# Altium schematic symbol library diodes_transil.SchLib: 25 symbols
Pins are listed as number, name and electrical type; pins without a type are passive.

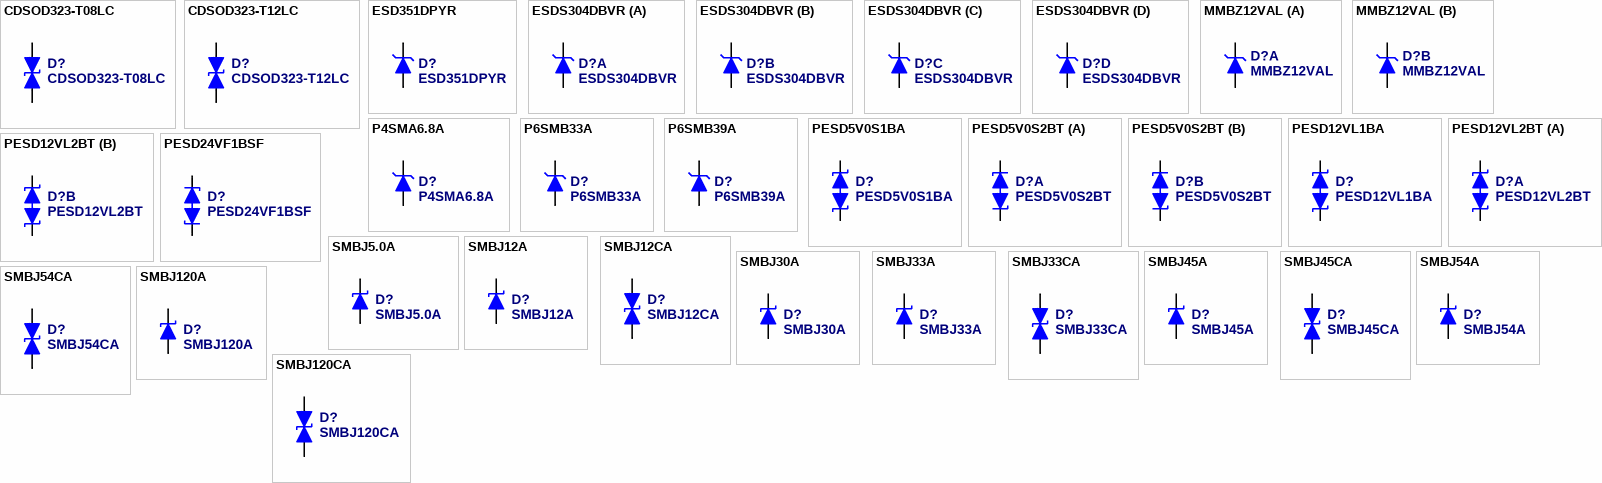
[diagram p0: symbols CDSOD323-T08LC to SMBJ120CA]

## CDSOD323-T08LC
designator D?
Bidirectional, 8V, 250W Surface Mount Transient Voltage Suppression Diode, CDSOD323 Series; Supplier 1: Farnell; Supplier Part Number 1: 2341923
footprint SOD323 (JAITA Marking: SC76 / SC-76)
pins: 1 A, 2 K
2 alternate drawings of the same symbol

## CDSOD323-T12LC
designator D?
Bidirectional, 12V, 250W Surface Mount Transient Voltage Suppression Diode, CDSOD323 Series; Supplier 1: Farnell; Supplier 2: Farnell; Supplier 3: Farnell; Supplier Part Number 1: 1824864RL; Supplier Part Number 2: 1824864; Supplier Part Number 3: 2082896
footprint SOD323 (JAITA Marking: SC76 / SC-76)
pins: 1 A, 2 K
2 alternate drawings of the same symbol

## ESD351DPYR
designator D?
1-Channel30 kV ESD ProtectionDiodewith Low ClampingVoltagein0402 Package
footprint D0402
pins: 1 A, 2 K

## ESDS304DBVR
designator D?
Data-Line Surge and ESD Protection Devices for HS Interfaces
footprint SOT-23-5 (, AKA: SOT753 (NXP), TSOP5 (NXP))
part A pins: 1, 2
part B pins: 2, 3
part C pins: 2, 4
part D pins: 2, 5

## MMBZ12VAL
designator D?
Low capacitance unidirectional double ESD protection diode; Supplier 1: Farnell; Supplier 2: Farnell; Supplier 3: Farnell; Supplier Part Number 1: 1829190RL; Supplier Part Number 2: 1829190; Supplier Part Number 3: 2441390
footprint SOT-23
part A pins: 1 K, 3 A
part B pins: 2 K, 3 A
2 alternate drawings of the same symbol

## P4SMA6.8A
designator D?
Surface Mount 400W ESD Diode
footprint DO-214AC (SMA)
pins: 1, 2

## P6SMB33A
designator D?
P6SMB Series TVS Diode (Vbd: 33V, Vstdoff: 28,4V); Product Nr: 1578884; Supplier: Farnell; Supplier 1: Farnell; Supplier 2: Farnell; Supplier 3: Farnell; Supplier 4: TME; Supplier 5: TME; Supplier 6: TME; Supplier Part Number 1: 1578879RL; Supplier Part Number 2: 1578879; Supplier Part Number 3: 2317507; Supplier Part Number 4: P6SMB33A; Supplier Part Number 5: P6SMB33A-LF; Supplier Part Number 6: P6SMB33AT3G
footprint SMB
pins: 1 A, 2 K
2 alternate drawings of the same symbol

## P6SMB39A
designator D?
P6SMB Series TVS Diode (Vbd: 39V, Vstdoff: 33.3V); Product Nr: 1578884; Supplier: Farnell; Supplier 1: Farnell; Supplier 2: Farnell; Supplier 3: TME; Supplier 4: TME; Supplier Part Number 1: 1459165; Supplier Part Number 2: 1459165RL; Supplier Part Number 3: P6SMB39A; Supplier Part Number 4: P6SMB39A-LF
footprint SMB
pins: 1 A, 2 K
2 alternate drawings of the same symbol

## PESD5V0S1BA
designator D?
Low capacitance bidirectional ESD protection diode in SOD323; Supplier 1: Farnell; Supplier 2: Farnell; Supplier 3: Farnell; Supplier 4: Farnell; Supplier Part Number 1: 8737363RL; Supplier Part Number 2: 8737363; Supplier Part Number 3: 1562425; Supplier Part Number 4: 2371090
footprint SOD323 (JAITA Marking: SC76 / SC-76)
pins: 1, 2
1 alternate drawing of the same symbol

## PESD5V0S2BT
designator D?
Low capacitance double bidirectional ESD protection diodes in SOT23; Supplier 1: Farnell; Supplier 2: Farnell; Supplier 3: TME; Supplier Part Number 1: 8737720RL; Supplier Part Number 2: 8737720; Supplier Part Number 3: PESD5V0S2BT
footprint SOT-23
part A pins: 2, 3
part B pins: 1, 3
1 alternate drawing of the same symbol

## PESD12VL1BA
designator D?
Low capacitance bidirectional ESD protection diode in SOD323; Supplier 1: Farnell; Supplier 2: Farnell; Supplier 3: Farnell; Supplier 4: Farnell; Supplier Part Number 1: 8737363RL; Supplier Part Number 2: 8737363; Supplier Part Number 3: 1562425; Supplier Part Number 4: 2371090
footprint SOD323 (JAITA Marking: SC76 / SC-76)
pins: 1, 2
1 alternate drawing of the same symbol

## PESD12VL2BT
designator D?
Low capacitance double bidirectional ESD protection diodes in SOT23; Supplier 1: Farnell; Supplier 2: Farnell; Supplier Part Number 1: 1510695; Supplier Part Number 2: 1510695RL
footprint SOT-23
part A pins: 2, 3
part B pins: 1, 3
1 alternate drawing of the same symbol

## PESD24VF1BSF
designator D?
Ultra low capacitance bidirectional ESD protection diode; Supplier 1: Newark; Supplier Part Number 1: 02AC3822
footprint SOD962
pins: 1, 2
1 alternate drawing of the same symbol

## SMBJ5.0A
designator D?
5.0V, 600W Surface Mount Transient Voltage Suppression Diode, SMBJ Series; Supplier 1: Farnell; Supplier 2: Farnell; Supplier 3: Farnell; Supplier 4: Farnell; Supplier 5: Farnell; Supplier 6: Farnell; Supplier 7: Farnell; Supplier 8: Farnell; Supplier 9: Farnell; Supplier 10: Farnell; Supplier 11: TME; Supplier 12: TME; Supplier 13: TME; Supplier Part Number 1: 9381554; Supplier Part Number 2: 1797897; Supplier Part Number 3: 9886311; Supplier Part Number 4: 2097845; Supplier Part Number 5: 1456972; Supplier Part Number 6: 7277792; Supplier Part Number 7: 9551107; Supplier Part Number 8: 2429079; Supplier Part Number 9: 2353654; Supplier Part Number 10: 2252493; Supplier Part Number 11: SMBJ5.0A-E3/52; Supplier Part Number 12: SMBJ5.0A-LF; Supplier Part Number 13: SMBJ5.0A-TR
footprint SMB
pins: 1 A, 2 K
2 alternate drawings of the same symbol

## SMBJ12A
designator D?
12V, 600W Surface Mount Transient Voltage Suppression Diode, SMBJ Series; Supplier 1: Farnell; Supplier 2: Farnell; Supplier 3: Farnell; Supplier 4: Farnell; Supplier 5: Farnell; Supplier 6: Farnell; Supplier 7: Farnell; Supplier 8: Farnell; Supplier 9: Farnell; Supplier 10: Farnell; Supplier 11: Farnell; Supplier 12: Farnell; Supplier 13: Farnell; Supplier 14: Farnell; Supplier 15: Farnell; Supplier 16: Farnell; Supplier 17: Farnell; Supplier 18: Farnell; Supplier 19: TME; Supplier 20: TME; Supplier 21: TME; Supplier Part Number 1: 1017826; Supplier Part Number 2: 2252468; Supplier Part Number 3: 2429080; Supplier Part Number 4: 9886060; Supplier Part Number 5: 2370782; Supplier Part Number 6: 1017826RL; Supplier Part Number 7: 9886060RL; Supplier Part Number 8: 1827609; Supplier Part Number 9: 1677611; Supplier Part Number 10: 9550968RL; Supplier Part Number 11: 9550968; Supplier Part Number 12: 2371362; Supplier Part Number 13: 1837056; Supplier Part Number 14: 1812508; Supplier Part Number 15: 1899462; Supplier Part Number 16: 2429080RL; Supplier Part Number 17: 7277717; Supplier Part Number 18: 7277717RL; Supplier Part Number 19: SMBJ12A-E3/52; Supplier Part Number 20: SMBJ12A-LF; Supplier Part Number 21: P6SMBJ12A-DIO
footprint SMB
pins: 1 A, 2 K
2 alternate drawings of the same symbol

## SMBJ12CA
designator D?
Bidirectional, 12V, 600W Surface Mount Transient Voltage Suppression Diode, SMBJ Series; Supplier 1: Farnell; Supplier 2: Farnell; Supplier 3: Farnell; Supplier 4: Farnell; Supplier 5: TME; Supplier 6: TME; Supplier 7: Farnell; Supplier 8: TME; Supplier Part Number 1: 9886079RL; Supplier Part Number 2: 1698866RL; Supplier Part Number 3: 2252469; Supplier Part Number 4: 9886079; Supplier Part Number 5: SMBJ12CA; Supplier Part Number 6: SMBJ12CA-E3/52; Supplier Part Number 7: 2691601; Supplier Part Number 8: SMBJ12CA-LF
footprint SMB
pins: 1 A, 2 K
2 alternate drawings of the same symbol

## SMBJ30A
designator D?
30V, 600W Surface Mount Transient Voltage Suppression Diode, SMBJ Series; Supplier 1: TME; Supplier 2: TME; Supplier 3: TME; Supplier 4: Farnell; Supplier 5: Farnell; Supplier 6: Farnell; Supplier 7: Farnell; Supplier 8: Farnell; Supplier Part Number 1: SMBJ30A-E3/52; Supplier Part Number 2: SMBJ30A-LF; Supplier Part Number 3: SMBJ30A-TR; Supplier Part Number 4: 9886230RL; Supplier Part Number 5: 2252483; Supplier Part Number 6: 1827616; Supplier Part Number 7: 9886230; Supplier Part Number 8: 2412917
footprint SMB
pins: 1 A, 2 K
2 alternate drawings of the same symbol

## SMBJ33A
designator D?
33V, 600W Surface Mount Transient Voltage Suppression Diode, SMBJ Series; Supplier 1: Farnell; Supplier 2: Farnell; Supplier 3: TME; Supplier 4: Farnell; Supplier 5: TME; Supplier 6: Farnell; Supplier 7: Farnell; Supplier Part Number 1: 9886257; Supplier Part Number 2: 2252485; Supplier Part Number 3: SMBJ33A-TR; Supplier Part Number 4: 9886257RL; Supplier Part Number 5: SMBJ33A-LF; Supplier Part Number 6: 9844015; Supplier Part Number 7: 9844015RL
footprint SMB
pins: 1 A, 2 K
2 alternate drawings of the same symbol

## SMBJ33CA
designator D?
33V, 600W Surface Mount Transient Voltage Suppression Diode, SMBJ Series
footprint SMB
pins: 1 A, 2 K
2 alternate drawings of the same symbol

## SMBJ45A
designator D?
45V, 600W Surface Mount Transient Voltage Suppression Diode, SMBJ Series; Supplier 1: Farnell; Supplier 2: Farnell; Supplier 3: TME; Supplier Part Number 1: 1794262; Supplier Part Number 2: 2763027; Supplier Part Number 3: SMBJ45A-LF
footprint SMB
pins: 1 A, 2 K
2 alternate drawings of the same symbol

## SMBJ45CA
designator D?
45V, 600W Surface Mount Transient Voltage Suppression Diode, SMBJ Series; Supplier 1: Farnell; Supplier 2: Farnell; Supplier 3: Farnell; Supplier 4: TME; Supplier 5: Farnell; Supplier 6: Farnell; Supplier 7: Farnell; Supplier 8: Farnell; Supplier 9: Farnell; Supplier Part Number 1: 1467636; Supplier Part Number 2: 1674564; Supplier Part Number 3: 1824149; Supplier Part Number 4: SMBJ45CA-LF; Supplier Part Number 5: 2762832; Supplier Part Number 6: 1794263; Supplier Part Number 7: 1467636RL; Supplier Part Number 8: 1698880; Supplier Part Number 9: 1698880RL
footprint SMB
pins: 1 A, 2 K
2 alternate drawings of the same symbol

## SMBJ54A
designator D?
54V, 600W Surface Mount Transient Voltage Suppression Diode, SMBJ Series; Supplier 1: Farnell; Supplier 2: TME; Supplier 3: Farnell; Supplier 4: Farnell; Supplier 5: Farnell; Supplier 6: Farnell; Supplier Part Number 1: 2335215; Supplier Part Number 2: SMBJ54A-LF; Supplier Part Number 3: 1700734; Supplier Part Number 4: 1700734RL; Supplier Part Number 5: 2459358; Supplier Part Number 6: 1886354
footprint SMB
pins: 1 A, 2 K
2 alternate drawings of the same symbol

## SMBJ54CA
designator D?
54V, 600W Surface Mount Transient Voltage Suppression Diode, SMBJ Series; Supplier 1: Farnell; Supplier 2: TME; Supplier 3: Farnell; Supplier Part Number 1: 1700864; Supplier Part Number 2: SMBJ54CA-LF; Supplier Part Number 3: 1700864RL
footprint SMB
pins: 1 A, 2 K
2 alternate drawings of the same symbol

## SMBJ120A
designator D?
120V, 600W Surface Mount Transient Voltage Suppression Diode, SMBJ Series; Supplier 1: Farnell; Supplier 2: Farnell; Supplier 3: Farnell; Supplier 4: TME; Supplier 5: Farnell; Supplier 6: Farnell; Supplier Part Number 1: 1611588RL; Supplier Part Number 2: 1611588; Supplier Part Number 3: 2067590; Supplier Part Number 4: SMBJ120A-LF; Supplier Part Number 5: 2777258; Supplier Part Number 6: 1797848
footprint SMB
pins: 1 A, 2 K
2 alternate drawings of the same symbol

## SMBJ120CA
designator D?
Bidirectional, 120V, 600W Surface Mount Transient Voltage Suppression Diode, SMBJ Series; Supplier 1: TME; Supplier 2: Farnell; Supplier 3: Farnell; Supplier 4: Farnell; Supplier Part Number 1: SMBJ120CA-LF; Supplier Part Number 2: 1700862; Supplier Part Number 3: 1700862RL; Supplier Part Number 4: 4500489
footprint SMB
pins: 1 A, 2 K
2 alternate drawings of the same symbol